# Altium schematic symbol library Module.SchLib: 10 symbols
Pins are listed as number, name and electrical type; pins without a type are passive.

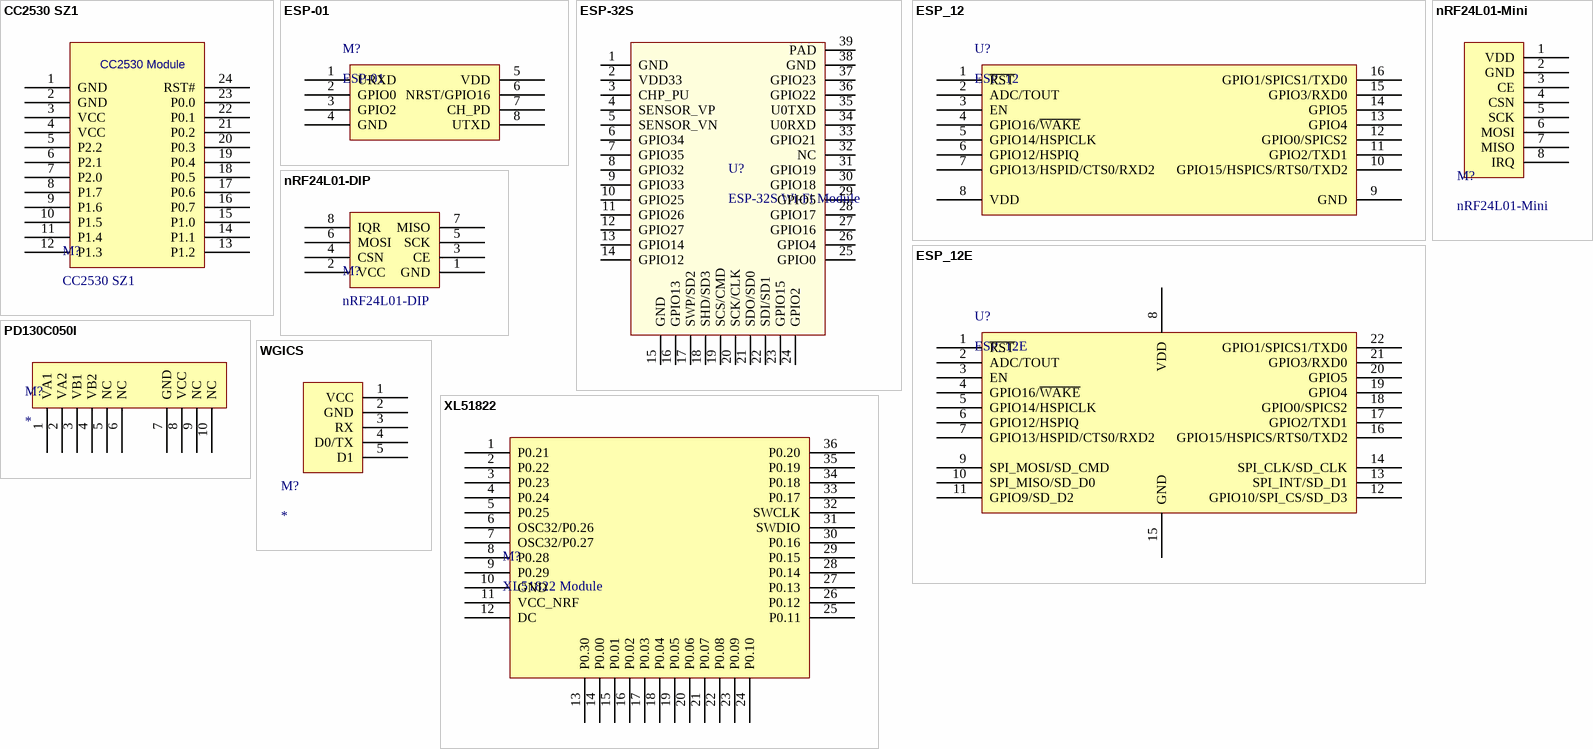
[diagram p0: symbols CC2530 SZ1 to XL51822]

## CC2530 SZ1
designator M?
CC2530 SZ1 Module
footprint CC2530-SMT
footprint CC2530-MODULE
pins: 1 GND, 2 GND, 3 VCC, 4 VCC, 5 P2.2, 6 P2.1, 7 P2.0, 8 P1.7, 9 P1.6, 10 P1.5, 11 P1.4, 12 P1.3, 13 P1.2, 14 P1.1, 15 P1.0, 16 P0.7, 17 P0.6, 18 P0.5, 19 P0.4, 20 P0.3, 21 P0.2, 22 P0.1, 23 P0.0, 24 RST#
text: CC2530 Module

## ESP-01
designator M?
WIFI Module
footprint HDR2X4/2.54MM (Connector; Header; 4x2 Position)
footprint HDR2X4_CEN (Connector; Header; 4x2 Position)
pins: 1 URXD, 2 GPIO0, 3 GPIO2, 4 GND, 5 VDD, 6 NRST/GPIO16, 7 CH_PD, 8 UTXD

## ESP-32S
designator U?, comment ESP-32S Wi-Fi Module
footprint ESP-32S
pins: 1 GND, 2 VDD33, 3 CHP_PU, 4 SENSOR_VP, 5 SENSOR_VN, 6 GPIO34, 7 GPIO35, 8 GPIO32, 9 GPIO33, 10 GPIO25, 11 GPIO26, 12 GPIO27, 13 GPIO14, 14 GPIO12, 15 GND, 16 GPIO13, 17 SWP/SD2, 18 SHD/SD3, 19 SCS/CMD, 20 SCK/CLK, 21 SDO/SD0, 22 SDI/SD1, 23 GPIO15, 24 GPIO2, 25 GPIO0, 26 GPIO4, 27 GPIO16, 28 GPIO17, 29 GPIO5, 30 GPIO18, 31 GPIO19, 32 NC, 33 GPIO21, 34 U0RXD, 35 U0TXD, 36 GPIO22, 37 GPIO23, 38 GND, 39 PAD

## ESP_12
designator U?
ESP-12 Wi-Fi Module by AI-Thinker; IC: ESP8266-EX; Vendor: Ai-thinker
footprint ESP_12 (ESP-12 Wi-Fi Module by AI-Thinker)
pins: 1 ~{RST} "Reset", 2 ADC/TOUT "ADC Input Or TOUT Output", 3 EN "Chip enable", 4 GPIO16/~{WAKE} "GPIO16 or Deep-Sleep Wakeup", 5 GPIO14/HSPICLK "GPIO14 or SPI CLK", 6 GPIO12/HSPIQ "GPIO12 or SPIQ", 7 GPIO13/HSPID/CTS0/RXD2 "GPIO13 or SPID", 8 VDD "Power supply", 9 GND "Power ground", 10 GPIO15/HSPICS/RTS0/TXD2 "GPIO15 or SPICS", 11 GPIO2/TXD1 "GPIO2 or TX", 12 GPIO0/SPICS2 "GPIO0 or SPICS2", 13 GPIO4 "GPIO5", 14 GPIO5 "GPIO4", 15 GPIO3/RXD0 "GPIO3 or UART RXD", 16 GPIO1/SPICS1/TXD0 "GPIO1 or UART TXD"

## ESP_12E
designator U?
ESP-12 Wi-Fi Module by AI-Thinker; IC: ESP8266-EX; Vendor: Ai-thinker
footprint ESP_12E (Footprint not found)
footprint ESP_12_E_L (ESP-12 Wi-Fi Module by AI-Thinker)
pins: 1 ~{RST} "Reset", 2 ADC/TOUT "ADC Input Or TOUT Output", 3 EN "Chip enable", 4 GPIO16/~{WAKE} "GPIO16 or Deep-Sleep Wakeup", 5 GPIO14/HSPICLK "GPIO14 or SPI CLK", 6 GPIO12/HSPIQ "GPIO12 or SPIQ", 7 GPIO13/HSPID/CTS0/RXD2 "GPIO13 or SPID", 8 VDD "Power supply", 9 SPI_MOSI/SD_CMD "GPIO14 or SPI CLK", 10 SPI_MISO/SD_D0 "GPIO12 or SPIQ", 11 GPIO9/SD_D2 "GPIO13 or SPID", 12 GPIO10/SPI_CS/SD_D3 "GPIO15 or SPICS", 13 SPI_INT/SD_D1 "GPIO2 or TX", 14 SPI_CLK/SD_CLK "GPIO0 or SPICS2", 15 GND "Power ground", 16 GPIO15/HSPICS/RTS0/TXD2 "GPIO15 or SPICS", 17 GPIO2/TXD1 "GPIO2 or TX", 18 GPIO0/SPICS2 "GPIO0 or SPICS2", 19 GPIO4 "GPIO5", 20 GPIO5 "GPIO4", 21 GPIO3/RXD0 "GPIO3 or UART RXD", 22 GPIO1/SPICS1/TXD0 "GPIO1 or UART TXD"

## nRF24L01-DIP
designator M?
footprint nRF24L01-DIP (Footprint not found)
pins: 1 GND, 2 VCC, 3 CE, 4 CSN, 5 SCK, 6 MOSI, 7 MISO, 8 IQR

## nRF24L01-Mini
designator M?
footprint nRF24L01-Mini
pins: 1 VDD, 2 GND, 3 CE, 4 CSN, 5 SCK, 6 MOSI, 7 MISO, 8 IRQ

## PD130C050I
designator M?
POE PD
footprint PD130C050I
pins: 1 VA1 (power), 2 VA2 (power), 3 VB1 (power), 4 VB2 (power), 5 NC (power), 6 NC (power), 7 GND (power), 8 VCC (power), 9 NC (power), 10 NC (power)

## WGICS
designator M?
Weigand IC Scanner
footprint WGS
pins: 1 VCC, 2 GND, 3 RX, 4 D0/TX, 5 D1

## XL51822
designator M?, comment XL51822 Module
footprint XL51822 (Footprint not found)
pins: 1 P0.21, 2 P0.22, 3 P0.23, 4 P0.24, 5 P0.25, 6 OSC32/P0.26, 7 OSC32/P0.27, 8 P0.28, 9 P0.29, 10 GND, 11 VCC_NRF, 12 DC, 13 P0.30, 14 P0.00, 15 P0.01, 16 P0.02, 17 P0.03, 18 P0.04, 19 P0.05, 20 P0.06, 21 P0.07, 22 P0.08, 23 P0.09, 24 P0.10, 25 P0.11, 26 P0.12, 27 P0.13, 28 P0.14, 29 P0.15, 30 P0.16, 31 SWDIO, 32 SWCLK, 33 P0.17, 34 P0.18, 35 P0.19, 36 P0.20